# EAGLE library part REDV-16P (library apu-csk-motherboard)
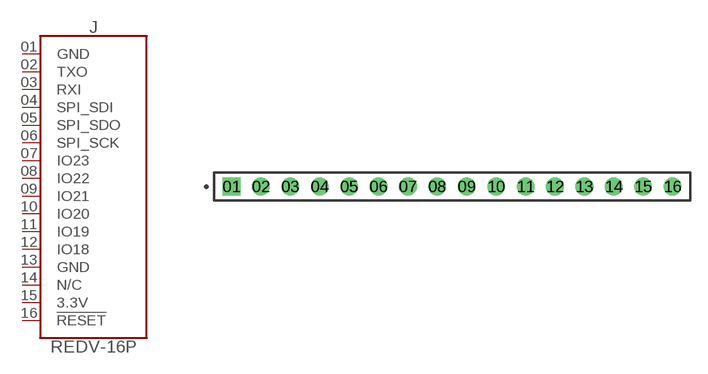
[diagram p6: symbol with the pads of SAMTEC_ESQ-116-37-G-S; footprint SAMTEC_ESQ-116-37-G-S]

Designator prefix J

## REDV-16P  [SAMTEC_ESQ-116-37-G-S]
01  GND
02  TXO
03  RXI
04  SPI_SDI
05  SPI_SDO
06  SPI_SCK
07  IO23
08  IO22
09  IO21
10  IO20
11  IO19
12  IO18
13  GND
14  N/C
15  3.3V
16  !RESET

## Footprint SAMTEC_ESQ-116-37-G-S (pad centres in mm)
drill 1.02 pad 1.37 square: 01 0,0
drill 1.02 pad 1.37: 02 2.54,0; 03 5.08,0; 04 7.62,0; 05 10.16,0; 06 12.7,0; 07 15.24,0; 08 17.78,0; 09 20.32,0; 10 22.86,0; 11 25.4,0; 12 27.94,0; 13 30.48,0; 14 33.02,0; 15 35.56,0; 16 38.1,0